# Altium schematic symbol library ws2812_2020_breakout.SchLib: 4 symbols
Pins are listed as number, name and electrical type; pins without a type are passive.

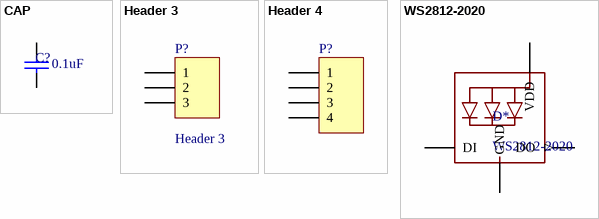
[diagram p0: symbols CAP to WS2812-2020]

## CAP
designator C?  value 0.1uF
Capacitor
footprint CAP_0402R (Capacitor 0402 reflow soldering)
footprint CAP_0603R (capacitor 0603 reflow soldering)
footprint CAP_0603W (capacitor 0603 wave soldering)
footprint CAP_0805R (capacitor 0805 reflow soldering)
footprint CAP_0805W (capacitor 0805 wave soldering)
footprint CAP_1206R (capacitor 1206 reflow soldering)
footprint CAP_1206W (capacitor 1206 wave soldering)
footprint CAP_1210R (capacitor 1210 reflow soldering)
pins: 1, 2

## Header 3
designator P?
Header, 3-Pin
footprint HDR1X3 (Connector; Header; 3 Position)
footprint HDR1X3_SWD (Connector; Header; 1x3Position)
pins: 1, 2, 3

## Header 4
designator P?
Header, 4-Pin; LatestRevisionDate: 17-Jul-2002; LatestRevisionNote: Re-released for DXP Platform.; Publisher: Altium Limited
footprint HDR1X4 (Connector; Header; 4 Position)
signal-integrity model Connector
footprint HDR1X4_SWD (Connector; Header; 1x4Position)
pins: 1, 2, 3, 4

## WS2812-2020
designator D*
Intelligent control LED integrated light source, low current, 2020 package; Manufacturer: Worldsemi; MPN: WS2812-2020
footprint WS2812-2020
pins: 1 DO (out), 2 GND (power), 3 DI, 4 VDD (power)